# Altium footprint library TpGivenLib.PcbLib: 23 footprints (part 2 of 2)
Each footprint in its own frame and in the unit in brackets; x right, y up, seen from the top. Pads: shape width x height; smd on the part's side, far side on the other; paste and mask are expansions set on the pad; w line width, h text height; cw(c..) or ccw(c..) is an arc to the next point about the centre after c.
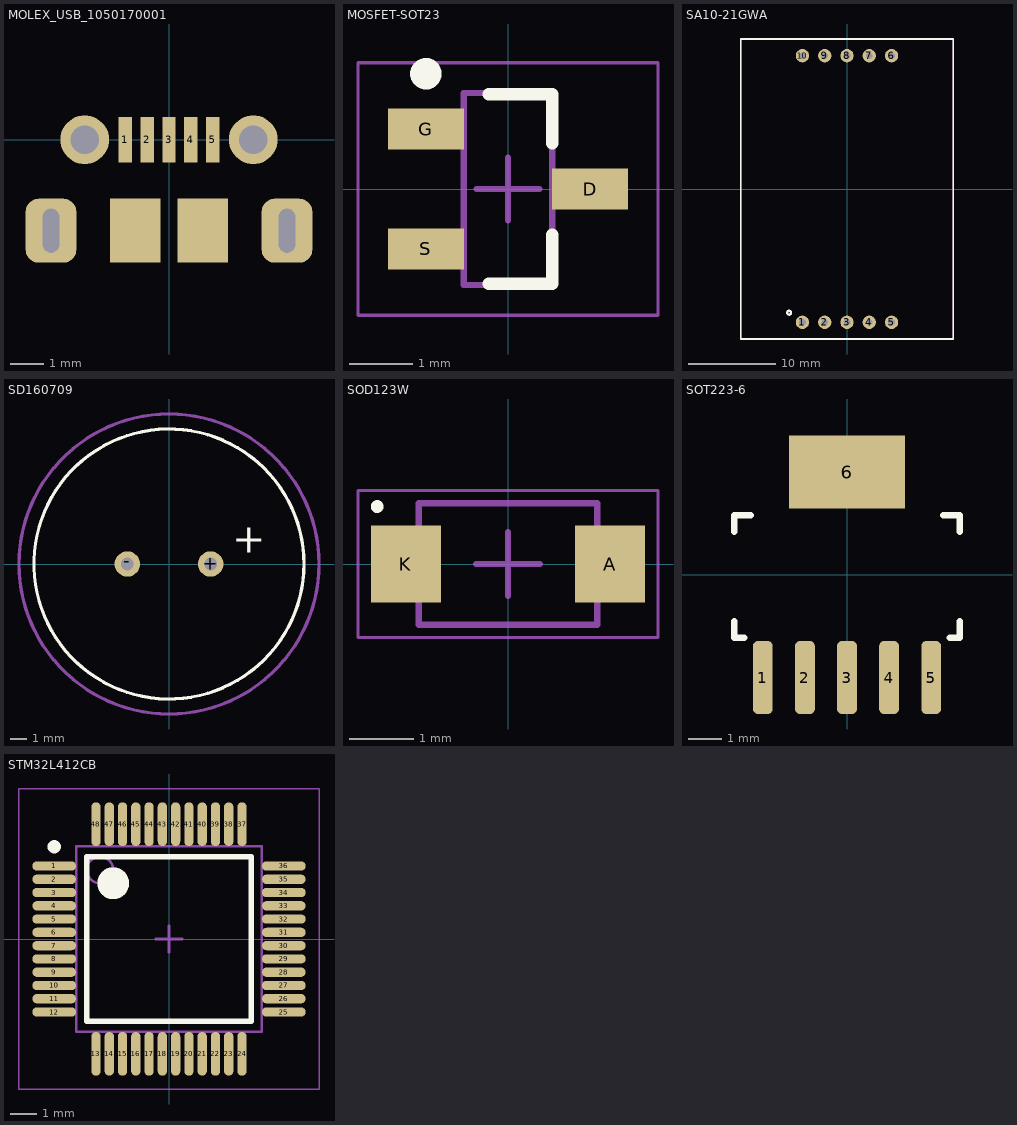
[diagram p1: the footprints below, top view; thin cyan lines are the x and y axes]

## MOLEX_USB_1050170001 [mm] "Molex 1050170001 Micro USB Header"
pads (11):
  rect 0.4x1.35 smd: 1(-1.3,0) 2(-0.65,0) 3(0,0) 4(0.65,0) 5(1.3,0)
  rrect50% 1.5x1.9 hole 0.5 slot 1.3 at 90 deg: ""(-3.5,-2.7) ""(3.5,-2.7)
  round 1.45 hole 0.85: ""(-2.5,0) ""(2.5,0)
  rect 1.5x1.9 smd: ""(-1,-2.7) ""(1,-2.7)
3D body "1050170001.stp": height 2.64, standoff -0.66, extent -4.1,-5.25 4.1,0.15

## MOSFET-SOT23 [mm] "MOSFET SOT23 Package"
height 1.12
pads (3):
  rect 1.2x0.65 smd: D(1.3,0) G(-1.3,0.95) S(-1.3,-0.95)
Top Overlay:
  circle w0.25: c-1.3,1.825 r0.125
  lines w0.2: -0.3,-1.5 0.7,-1.5 0.7,-0.725 ; -0.3,1.5 0.7,1.5 0.7,0.725
Mechanical 13:
  lines w0.1: -0.7,-1.52 -0.7,1.52 0.7,1.52 0.7,-1.52 -0.7,-1.52
Mechanical 15:
  lines w0.05: -2.375,-2 -2.375,2 2.375,2 2.375,-2 -2.375,-2
  lines w0.1: -0.5,0 0.5,0 ; 0,-0.5 0,0.5
3D body "SOT23-3.stp": height 1.2, standoff 0.02, extent -1.418,-1.5 1.418,1.5

## SA10-21GWA [mil] "KingBright 7 Segment SA10-21GWA"
pads (10):
  round 60 hole 30: 1(-200,-598.43) 2(-100,-598.43) 3(0,-598.43) 4(100,-598.43) 5(200,-598.43) 6(200,598.43) 7(100,598.43) 8(0,598.43) 9(-100,598.43) 10(-200,598.43)
Top Overlay:
  circle w10: c-259.84,-555.12 r8.8
  lines w7.87: -476.38,-673.23 -476.38,673.23 476.38,673.23 476.38,-673.23 -476.38,-673.23
Mechanical 15:
  lines w7.87: -476.38,-673.23 476.38,-673.23 476.38,673.23 -476.38,673.23 -476.38,-673.23
3D body "SA10-21.STEP": height 413.78, standoff -157.09, extent -472.43,-669.29 472.45,669.3

## SD160709 [mil] "TDK SD160709 Buzzer"
pads (2):
  round 60 hole 30: +(98.43,0) -(-98.43,0)
Top Overlay:
  circle w7.87: c0,0 r318.9
  text "+" at 149.61,3.94 h118.11
Mechanical 15:
  circle w7.87: c0,0 r354.33
3D body "SD160709.stp": height 277.56, standoff -214.57, extent -314.96,-314.97 314.96,314.95

## SOD123W [mm] "SOD123W Nexperia Low density"
height 1.1
pads (2):
  rect 1.1x1.2 smd: A(1.6,0) K(-1.6,0)
Top Overlay:
  circle w0.1: c-2.05,0.9 r0.05
Mechanical 13:
  lines w0.1: -1.4,-0.95 1.4,-0.95 1.4,0.95 -1.4,0.95 -1.4,-0.95
Mechanical 15:
  lines w0.05: -2.35,-1.15 2.35,-1.15 2.35,1.15 -2.35,1.15 -2.35,-1.15
  lines w0.1: -0.5,0 0.5,0 ; 0,-0.5 0,0.5
3D body "SOD123W.step": height 1.1, standoff 0, extent -1.75,-0.95 1.75,0.95

## SOT223-6 [mm] "SOT223 package 6pins"
pads (6):
  rrect50% 0.6x2.2 smd mask+0.102: 1(-2.54,-3.1) 2(-1.27,-3.1) 3(0,-3.1) 4(1.27,-3.1) 5(2.54,-3.1)
  rect 3.5x2.2 smd mask+0.102: 6(0,3.1)
Top Overlay:
  lines w0.2: -3.4,-1.4 -3.4,-1.9 -3.1,-1.9 ; -3.4,1.3 -3.4,1.8 -2.9,1.8 ; 2.9,1.8 3.4,1.8 3.4,1.3 ; 3.1,-1.9 3.4,-1.9 3.4,-1.4
3D body "User Library-SOT-223-6.STEP": height 1.8, standoff 0, extent -3.275,-3.63 3.275,3.63

## STM32L412CB [mm] "STM32L412CB 48 Pins LQFP"
height 1.6
pads (48):
  oval 1.65x0.35 smd: 1(-4.325,2.75) 2(-4.325,2.25) 3(-4.325,1.75) 4(-4.325,1.25) 5(-4.325,0.75) 6(-4.325,0.25) 7(-4.325,-0.25) 8(-4.325,-0.75) 9(-4.325,-1.25) 10(-4.325,-1.75) 11(-4.325,-2.25) 12(-4.325,-2.75) 25(4.325,-2.75) 26(4.325,-2.25) 27(4.325,-1.75) 28(4.325,-1.25) 29(4.325,-0.75) 30(4.325,-0.25) 31(4.325,0.25) 32(4.325,0.75) 33(4.325,1.25) 34(4.325,1.75) 35(4.325,2.25) 36(4.325,2.75)
  oval 0.35x1.65 smd: 13(-2.75,-4.325) 14(-2.25,-4.325) 15(-1.75,-4.325) 16(-1.25,-4.325) 17(-0.75,-4.325) 18(-0.25,-4.325) 19(0.25,-4.325) 20(0.75,-4.325) 21(1.25,-4.325) 22(1.75,-4.325) 23(2.25,-4.325) 24(2.75,-4.325) 37(2.75,4.325) 38(2.25,4.325) 39(1.75,4.325) 40(1.25,4.325) 41(0.75,4.325) 42(0.25,4.325) 43(-0.25,4.325) 44(-0.75,4.325) 45(-1.25,4.325) 46(-1.75,4.325) 47(-2.25,4.325) 48(-2.75,4.325)
Top Overlay:
  circle w0.6: c-2.1,2.1 r0.3
  circle w0.25: c-4.325,3.475 r0.125
  lines w0.2: -3.1,-3.1 3.1,-3.1 3.1,3.1 -3.1,3.1 -3.1,-3.1
Mechanical 13:
  circle w0.1: c-2.6,2.6 r0.5
  lines w0.1: -3.5,-3.5 3.5,-3.5 3.5,3.5 -3.5,3.5 -3.5,-3.5
Mechanical 15:
  lines w0.05: -5.65,-5.65 5.65,-5.65 5.65,5.65 -5.65,5.65 -5.65,-5.65
  lines w0.1: -0.5,0 0.5,0 ; 0,-0.5 0,0.5
3D body "STM32L412CB.step": height 1.6, standoff 0, extent -4.5,-4.5 4.5,4.5